# Altium footprint library PBD.PcbLib: 9 footprints
Each footprint in its own frame and in the unit in brackets; x right, y up, seen from the top. Pads: shape width x height; smd on the part's side, far side on the other; paste and mask are expansions set on the pad; w line width, h text height; cw(c..) or ccw(c..) is an arc to the next point about the centre after c.
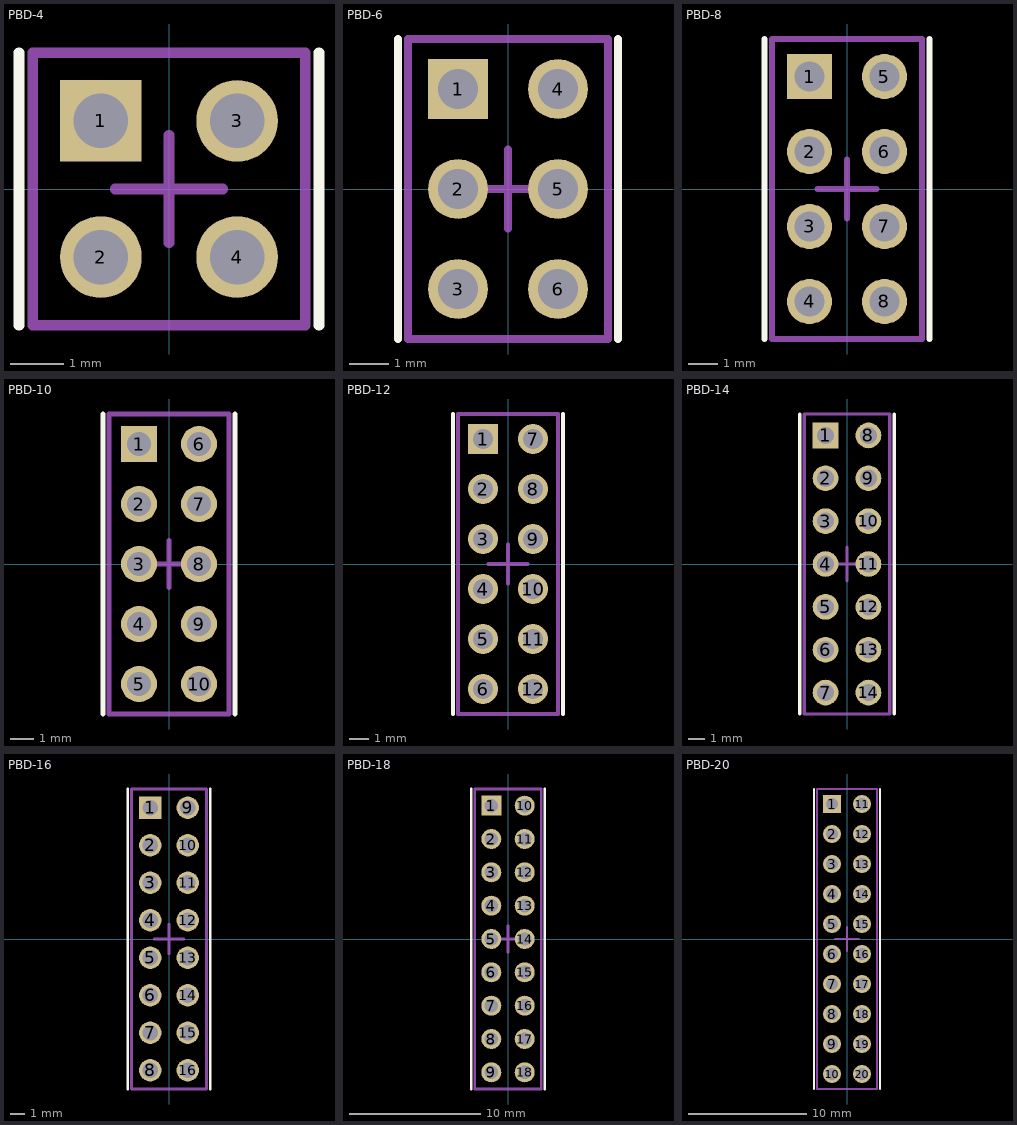
[diagram p0: the footprints below, top view; thin cyan lines are the x and y axes]

## PBD-4 [mil]
pads (4):
  rect 60x60 hole 40.16: 1(-50,50)
  round 60 hole 40.16: 2(-50,-50) 3(50,50) 4(50,-50)
Top Overlay:
  lines w7.87: -110,-100 -110,100 ; 110,-100 110,100
Assembly:
  lines w7.87: -100,-100 100,-100 100,100 -100,100 -100,-100
Mechanical 15:
  lines w7.87: -39.37,0 39.37,0 ; 0,-39.37 0,39.37 ; -100,-100 100,-100 100,57.48 100,100 -100,100 -100,-100
3D body "PBD-4.step": height 334.65, standoff -118.11, extent -98.42,-100 98.43,100

## PBD-6 [mil]
pads (6):
  rect 60x60 hole 40.16: 1(-50,100)
  round 60 hole 40.16: 2(-50,0) 3(-50,-100) 4(50,100) 5(50,0) 6(50,-100)
Top Overlay:
  lines w7.87: -110,-150 -110,150 ; 110,-150 110,150
Assembly:
  lines w7.87: -100,-150 100,-150 100,150 -100,150 -100,-150
Mechanical 15:
  lines w7.87: -39.37,0 39.37,0 ; 0,-39.37 0,39.37 ; -100,-150 100,-150 100,57.48 100,150 -100,150 -100,-150
3D body "PBD-6.step": height 334.65, standoff -118.11, extent -98.42,-150 98.43,150

## PBD-8 [mil]
pads (8):
  rect 60x60 hole 40.16: 1(-50,150)
  round 60 hole 40.16: 2(-50,50) 3(-50,-50) 4(-50,-150) 5(50,150) 6(50,50) 7(50,-50) 8(50,-150)
Top Overlay:
  lines w7.87: -110,-200 -110,200 ; 110,-200 110,200
Assembly:
  lines w7.87: -100,-200 100,-200 100,200 -100,200 -100,-200
Mechanical 15:
  lines w7.87: -39.37,0 39.37,0 ; 0,-39.37 0,39.37 ; -100,-200 100,-200 100,57.48 100,200 -100,200 -100,-200
3D body "PBD-8.step": height 334.65, standoff -118.11, extent -98.42,-200 98.43,200

## PBD-10 [mil]
pads (10):
  rect 60x60 hole 40.16: 1(-50,200)
  round 60 hole 40.16: 2(-50,100) 3(-50,0) 4(-50,-100) 5(-50,-200) 6(50,200) 7(50,100) 8(50,0) 9(50,-100) 10(50,-200)
Top Overlay:
  lines w7.87: -110,-250 -110,250 ; 110,-250 110,250
Assembly:
  lines w7.87: -100,-250 100,-250 100,250 -100,250 -100,-250
Mechanical 15:
  lines w7.87: -39.37,0 39.37,0 ; 0,-39.37 0,39.37 ; -100,-250 100,-250 100,57.48 100,250 -100,250 -100,-250
3D body "PBD-10.step": height 334.65, standoff -118.11, extent -98.42,-250 98.43,250

## PBD-12 [mil]
pads (12):
  rect 60x60 hole 40.16: 1(-50,250)
  round 60 hole 40.16: 2(-50,150) 3(-50,50) 4(-50,-50) 5(-50,-150) 6(-50,-250) 7(50,250) 8(50,150) 9(50,50) 10(50,-50) 11(50,-150) 12(50,-250)
Top Overlay:
  lines w7.87: -110,-300 -110,300 ; 110,-300 110,300
Assembly:
  lines w7.87: -100,-300 -100,300 100,300 100,-300 -100,-300
Mechanical 15:
  lines w7.87: -39.37,0 39.37,0 ; 0,-39.37 0,39.37 ; -100,-300 -100,300 100,300 100,57.48 100,-300 -100,-300
3D body "PBD-12.step": height 334.65, standoff -118.11, extent -98.42,-300 98.43,300

## PBD-14 [mil]
pads (14):
  rect 60x60 hole 40.16: 1(-50,300)
  round 60 hole 40.16: 2(-50,200) 3(-50,100) 4(-50,0) 5(-50,-100) 6(-50,-200) 7(-50,-300) 8(50,300) 9(50,200) 10(50,100) 11(50,0) 12(50,-100) 13(50,-200) 14(50,-300)
Top Overlay:
  lines w7.87: -110,-350 -110,350 ; 110,-350 110,350
Assembly:
  lines w7.87: -100,-350 -100,350 100,350 100,-350 -100,-350
Mechanical 15:
  lines w7.87: -39.37,0 39.37,0 ; 0,-39.37 0,39.37 ; -100,-350 -100,350 100,350 100,57.48 100,-350 -100,-350
3D body "PBD-14.step": height 334.65, standoff -118.11, extent -98.42,-350 98.43,350

## PBD-16 [mil]
pads (16):
  rect 60x60 hole 40.16: 1(-50,350)
  round 60 hole 40.16: 2(-50,250) 3(-50,150) 4(-50,50) 5(-50,-50) 6(-50,-150) 7(-50,-250) 8(-50,-350) 9(50,350) 10(50,250) 11(50,150) 12(50,50) 13(50,-50) 14(50,-150) 15(50,-250) 16(50,-350)
Top Overlay:
  lines w7.87: -110,-400 -110,400 ; 110,-400 110,400
Assembly:
  lines w7.87: -100,-400 100,-400 100,400 -100,400 -100,-400
Mechanical 15:
  lines w7.87: -39.37,0 39.37,0 ; 0,-39.37 0,39.37 ; -100,-400 100,-400 100,57.48 100,400 -100,400 -100,-400
3D body "PBD-16.step": height 334.65, standoff -118.11, extent -98.42,-400 98.43,400

## PBD-18 [mil]
pads (18):
  rect 60x60 hole 40.16: 1(-50,400)
  round 60 hole 40.16: 2(-50,300) 3(-50,200) 4(-50,100) 5(-50,0) 6(-50,-100) 7(-50,-200) 8(-50,-300) 9(-50,-400) 10(50,400) 11(50,300) 12(50,200) 13(50,100) 14(50,0) 15(50,-100) 16(50,-200) 17(50,-300) 18(50,-400)
Top Overlay:
  lines w7.87: -110,-450 -110,450 ; 110,-450 110,450
Assembly:
  lines w7.87: -100,-450 100,-450 100,450 -100,450 -100,-450
Mechanical 15:
  lines w7.87: -39.37,0 39.37,0 ; 0,-39.37 0,39.37 ; -100,-450 100,-450 100,57.48 100,450 -100,450 -100,-450
3D body "PBD-18.step": height 334.65, standoff -118.11, extent -98.42,-450 98.43,450

## PBD-20 [mil]
pads (20):
  rect 60x60 hole 40.16: 1(-50,450)
  round 60 hole 40.16: 2(-50,350) 3(-50,250) 4(-50,150) 5(-50,50) 6(-50,-50) 7(-50,-150) 8(-50,-250) 9(-50,-350) 10(-50,-450) 11(50,450) 12(50,350) 13(50,250) 14(50,150) 15(50,50) 16(50,-50) 17(50,-150) 18(50,-250) 19(50,-350) 20(50,-450)
Top Overlay:
  lines w7.87: -110,-500 -110,500 ; 110,-500 110,500
Assembly:
  lines w7.87: -100,-500 -100,500 100,500 100,-500 -100,-500
Mechanical 15:
  lines w7.87: -39.37,0 39.37,0 ; 0,-39.37 0,39.37 ; -100,-500 -100,500 100,500 100,57.48 100,-500 -100,-500
3D body "PBD-20.step": height 334.65, standoff -118.11, extent -98.42,-500 98.43,500